# EAGLE library part LTC6244*?S8#PBF (library LTC624x)
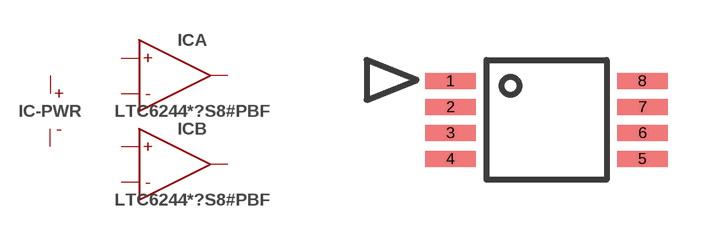
[diagram p2: symbol with the pads of MSOP8; footprint MSOP8]

Designator prefix IC; gates A=OP-AMP B=OP-AMP -PWR=PWR

## LTC6244CMS8#PBF (MARK: LTCCM; MF: Analog/Linear; MPN: LTC6244CMS8#PBF), LTC6244HVCMS8#PBF (MARK: LTCGF; MF: Analog/Linear; MPN: LTC6244HVCMS8#PBF)  [MSOP8]
1  A:OUT  out
2  A:INN  in
3  A:INP  in
4  -PWR:GND  pwr
5  B:INP  in
6  B:INN  in
7  B:OUT  out
8  -PWR:VDD  pwr

## Footprint MSOP8 (pad centres in mm)
smd 1.26 x 0.4: 1 -2.4,0.975; 2 -2.4,0.325; 3 -2.4,-0.325; 4 -2.4,-0.975; 5 2.4,-0.975; 6 2.4,-0.325; 7 2.4,0.325; 8 2.4,0.975